# Altium footprint library Cap_Panasonic_10TPE220ML_eec_0.PcbLib: 1 footprints
Each footprint in its own frame and in the unit in brackets; x right, y up, seen from the top. Pads: shape width x height; smd on the part's side, far side on the other; paste and mask are expansions set on the pad; w line width, h text height; cw(c..) or ccw(c..) is an arc to the next point about the centre after c.
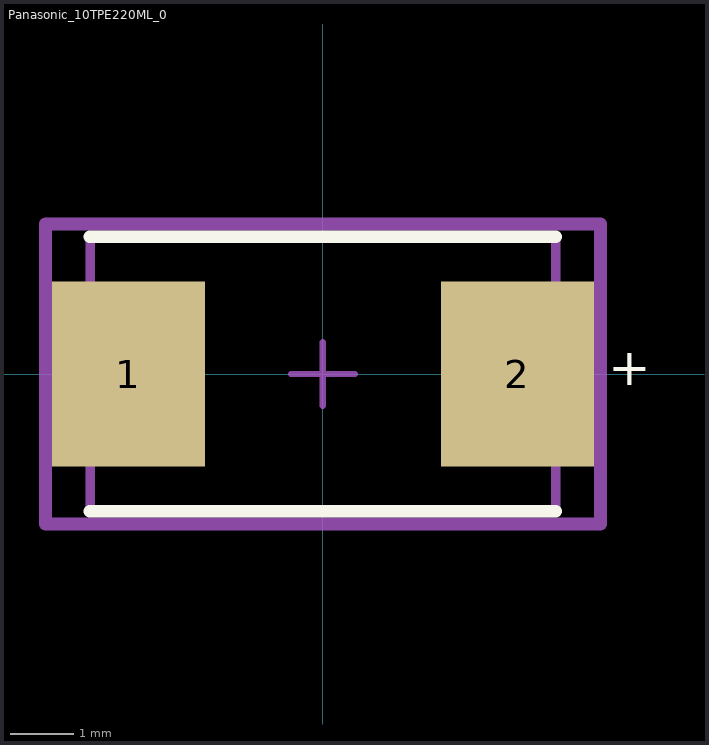
[diagram p0: the footprint, top view; thin cyan lines are the x and y axes]

## Panasonic_10TPE220ML_0 [mm]
pads (2):
  rect 2.4x2.9 smd paste+0 mask+0: 1(-3.05,0) 2(3.05,0)
Top Overlay:
  lines w0.2: -3.65,-2.15 3.65,-2.15 ; -3.65,2.15 3.65,2.15
  text "+" at 4.475,-0.375 h1
Mechanical 10:
  lines w0.2: -4.35,-2.35 4.35,-2.35 4.35,2.35 -4.35,2.35 -4.35,-2.35
  text ".Designator" at 0,0 h1
Mechanical 12:
  lines w0.15: -3.65,-2.15 3.65,-2.15 3.65,2.15 -3.65,2.15 -3.65,-2.15
Mechanical 15:
  lines w0.1: -0.5,0 0.5,0 -0.5,0 ; 0,-0.5 0,0.5 0,-0.5
  lines w0.2: -4.35,-2.35 4.35,-2.35 4.35,2.35 -4.35,2.35 -4.35,-2.35